# EAGLE library part AVAGO_DRIVER (library avagopack)
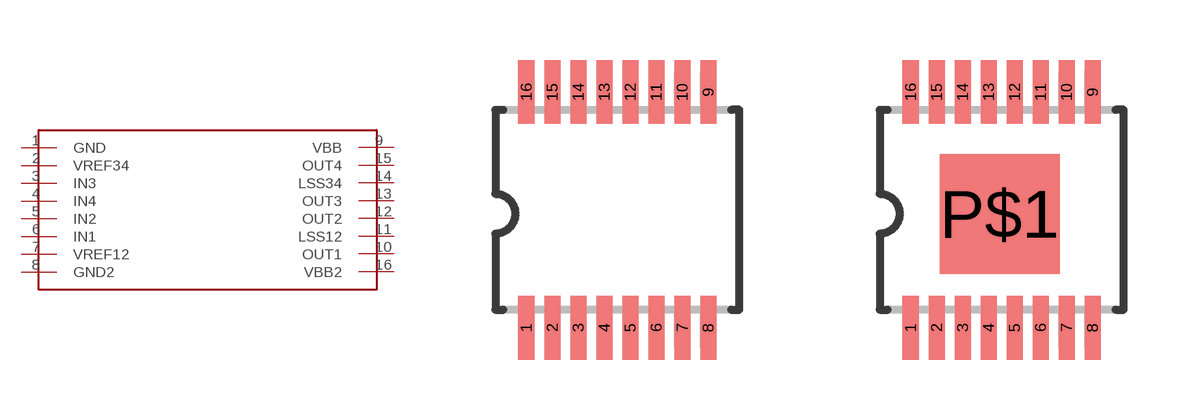
[diagram p0: symbol with the pads of TSSOP16; footprints TSSOP16, TSSOP16_THERM]

Designator prefix -

## AVAGO_DRIVER  [TSSOP16]
1  GND
2  VREF34
3  IN3
4  IN4
5  IN2
6  IN1
7  VREF12
8  GND2
9  VBB
10  OUT1
11  LSS12
12  OUT2
13  OUT3
14  LSS34
15  OUT4
16  VBB2

## AVAGO_DRIVERTHERM  [TSSOP16_THERM]
1  GND
2  VREF34
3  IN3
4  IN4
5  IN2
6  IN1
7  VREF12
8  GND2
9  VBB
10  OUT1
11  LSS12
12  OUT2
13  OUT3
14  LSS34
15  OUT4
16  VBB2
P$1  GND

## Footprint TSSOP16 (pad centres in mm)
TSOP16 thin small outline package
smd 0.4 x 1.6: 1 -2.225,-2.85; 2 -1.575,-2.85; 3 -0.925,-2.85; 4 -0.275,-2.85; 5 0.375,-2.85; 6 1.025,-2.85; 7 1.675,-2.85; 8 2.325,-2.85; 9 2.325,3.05; 10 1.675,3.05; 11 1.025,3.05; 12 0.375,3.05; 13 -0.275,3.05; 14 -0.925,3.05; 15 -1.575,3.05; 16 -2.225,3.05

## Footprint TSSOP16_THERM (pad centres in mm)
smd 0.4 x 1.6: 1 -2.225,-2.85; 2 -1.575,-2.85; 3 -0.925,-2.85; 4 -0.275,-2.85; 5 0.375,-2.85; 6 1.025,-2.85; 7 1.675,-2.85; 8 2.325,-2.85; 9 2.325,3.05; 10 1.675,3.05; 11 1.025,3.05; 12 0.375,3.05; 13 -0.275,3.05; 14 -0.925,3.05; 15 -1.575,3.05; 16 -2.225,3.05
smd 3 x 3: P$1 0,0